# EAGLE library part FPF219* (library bschulz)
FPF219x - Load Switch, with Adjustable Current Limit and Fault Indicator Characteristics: Vin: 1.8v ~ 5.5v IQ: <2μA (OFF), 75μA (ON) RDS(ON): 55mΩ (Vin = 3.3v) Output Current: 1.5A (Max, limit adj) Operating Temperature: -40°C to 85°C Digikey: FPF2195BUCXCT-ND (FPF2195BUCX) <https://www.digikey.com/en/products/detail/onsemi/FPF2195BUCX/4562742>
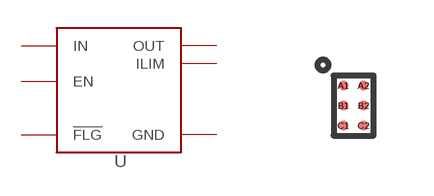
[diagram p174: symbol with the pads of WCSP_6; footprint WCSP_6]

Designator prefix U

## FPF219, FPF2193 (DIGIKEY: FPF2193CT-ND; DISP: FPF2193; MF: onsemi; MPN: FPF2193), FPF2194 (DISP: FPF2194; MF: onsemi), FPF2195 (DIGIKEY: FPF2195CT-ND; DISP: FPF2195; MF: onsemi; MPN: FPF2195), FPF2195BUCX (DIGIKEY: FPF2195BUCXCT-ND; DISP: FPF2195BUCX; MF: onsemi; MPN: FPF2195BUCX)  [WCSP_6]
A1  !FLG  oc
A2  EN  in
B1  OUT  pwr
B2  IN  pwr
C1  ILIM  in
C2  GND  pwr

## Footprint WCSP_6 (pad centres in mm)
WCSP, 6 pos, 1.5x1mm body Datasheet <https://www.onsemi.com/pdf/datasheet/fpf2194-d.pdf>
smd 0.25 x 0.25: A1 -0.25,0.5; A2 0.25,0.5; B1 -0.25,0; B2 0.25,0; C1 -0.25,-0.5; C2 0.25,-0.5